# Altium footprint library Passive Components.PcbLib: 12 footprints
Each footprint in its own frame and in the unit in brackets; x right, y up, seen from the top. Pads: shape width x height; smd on the part's side, far side on the other; paste and mask are expansions set on the pad; w line width, h text height; cw(c..) or ccw(c..) is an arc to the next point about the centre after c.
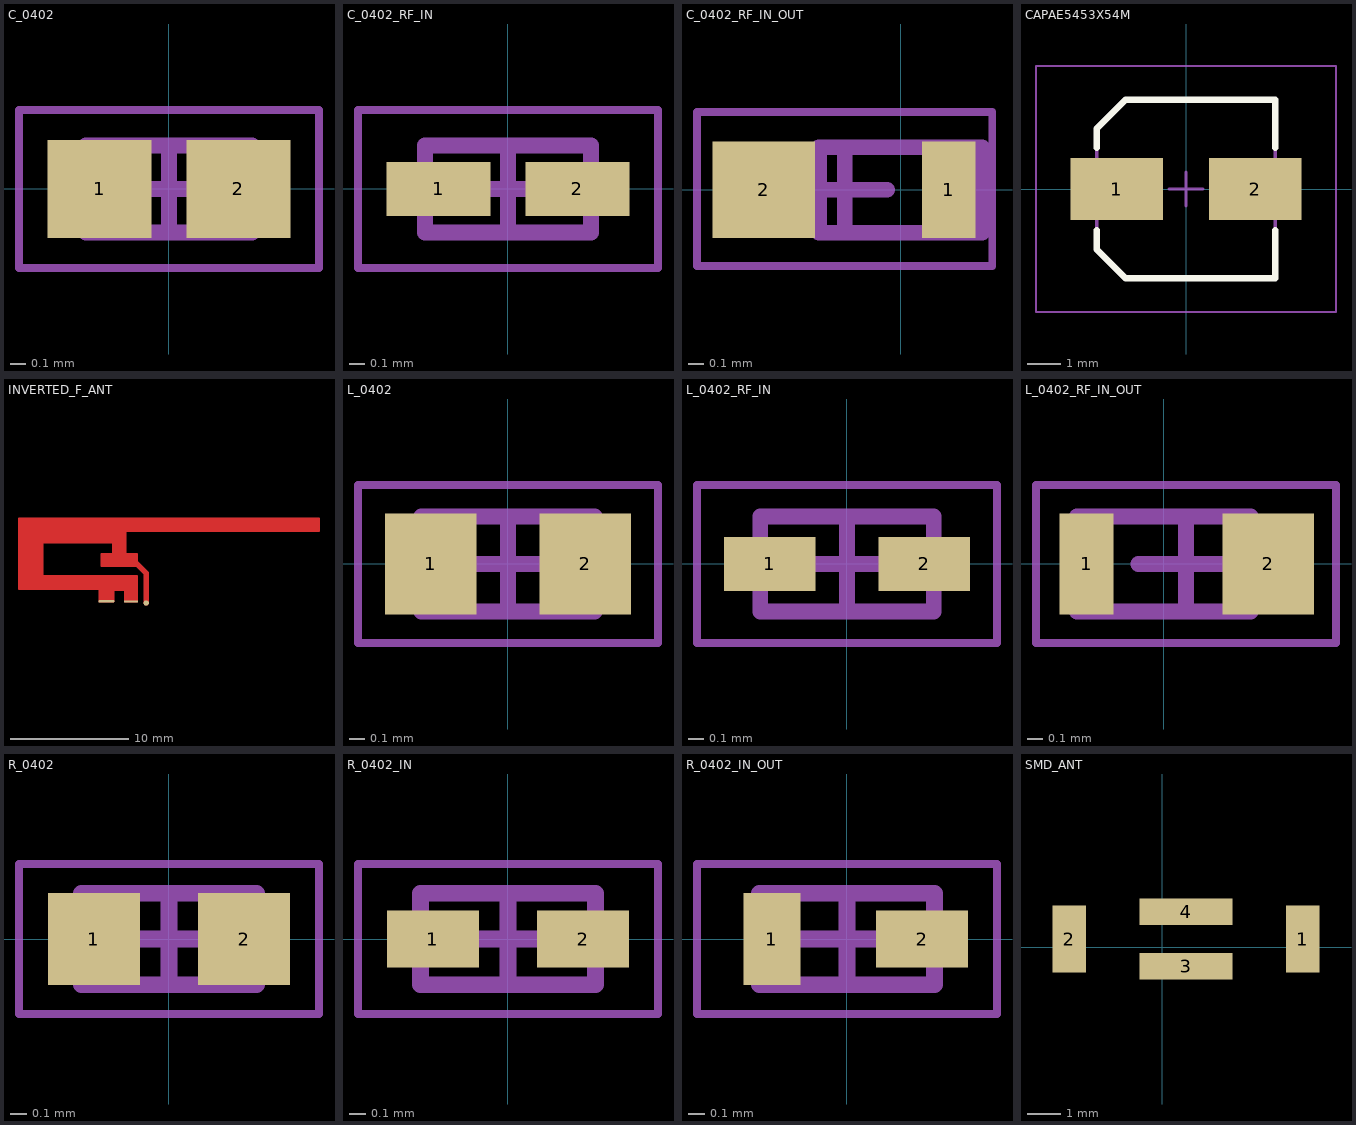
[diagram p0: the footprints below, top view; thin cyan lines are the x and y axes]

## C_0402 [mm] "Chip Capacitor, 2-Leads, Body 1,00x0,50mm, IPC Medium Density"
height 0.55
pads (2):
  rect 0.66x0.62 smd: 1(-0.44,0) 2(0.44,0)
Mechanical 13:
  lines w0.1: -0.525,-0.275 -0.525,0.275 0.525,0.275 0.525,-0.275 -0.525,-0.275
Mechanical 15:
  lines w0.05: -0.95,-0.5 -0.95,0.5 0.95,0.5 0.95,-0.5 -0.95,-0.5
  lines w0.1: -0.275,0 0.275,0 ; 0,-0.275 0,0.275
3D body "CAPC1005X06N.step": height 0.55, standoff 0, extent -0.525,-0.275 0.525,0.275

## C_0402_RF_IN [mm] "Chip Capacitor, 2-Leads, Body 1,00x0,50mm, IPC Medium Density"
height 0.55
pads (2):
  rect 0.66x0.343 smd mask+0.202: 1(-0.44,0) 2(0.44,0)
Mechanical 13:
  lines w0.1: -0.525,-0.275 -0.525,0.275 0.525,0.275 0.525,-0.275 -0.525,-0.275
Mechanical 15:
  lines w0.05: -0.95,-0.5 -0.95,0.5 0.95,0.5 0.95,-0.5 -0.95,-0.5
  lines w0.1: -0.275,0 0.275,0 ; 0,-0.275 0,0.275
3D body "CAPC1005X06N.step": height 0.55, standoff 0, extent -0.525,-0.275 0.525,0.275

## C_0402_RF_IN_OUT [mm] "Chip Capacitor, 2-Leads, Body 1,00x0,50mm, IPC Medium Density"
height 0.55
pads (2):
  rect 0.343x0.62 smd: 1(0.31,0)
  rect 0.66x0.62 smd: 2(-0.88,0)
Mechanical 13:
  lines w0.1: -0.525,-0.275 0.525,-0.275 0.525,0.275 -0.525,0.275 -0.525,-0.275
Mechanical 15:
  lines w0.05: -1.31,-0.49 0.59,-0.49 0.59,0.5 -1.31,0.5 -1.31,-0.49
  lines w0.1: -0.635,0 -0.085,0 ; -0.36,-0.275 -0.36,0.275
3D body "CAPC1005X06N.step": height 0.55, standoff 0, extent -0.765,-0.275 0.285,0.275

## CAPAE5453X54M [mm] "Aluminum Electrolytic Capacitor, Body 5,30x5,30x5,40mm, IPC Low Density"
height 5.4
pads (2):
  rect 2.75x1.85 smd: 1(-2.05,0) 2(2.05,0)
Top Overlay:
  lines w0.2: -2.65,-1.225 -2.65,-1.787 -1.788,-2.65 2.65,-2.65 2.65,-1.225 ; -2.65,1.225 -2.65,1.787 -1.788,2.65 2.65,2.65 2.65,1.225
Mechanical 13:
  lines w0.1: -2.65,-1.787 -1.788,-2.65 2.65,-2.65 2.65,2.65 -1.788,2.65 -2.65,1.787 -2.65,-1.787
Mechanical 15:
  lines w0.05: -4.45,-3.65 -4.45,3.65 4.45,3.65 4.45,-3.65 -4.45,-3.65
  lines w0.1: -0.5,0 0.5,0 ; 0,-0.5 0,0.5
3D body "CAPAE5453X54M.step": height 5.4, standoff 0, extent -2.675,-2.65 2.675,2.65

## INVERTED_F_ANT [mil] "2.4 GHz inverted F antenna"
pads (7):
  round 1 smd mask+4: 1(-47569.61,-42812.13) 1(-47536,-42945) 1(-47536,-42845.74) 1(-47536,-42845.74)
  round 17.99 smd mask+4: ANT(-47536,-42945)
  rrect90% 53.15x7.87 smd: GND(-47668.5,-42939.76)
  rrect90% 47.24x7.87 smd: GND(-47586.61,-42940.16)
Top Layer:
  lines w8: -47960,-42896 -47567,-42896 ; -47960,-42888 -47567,-42888 ; -47960,-42880 -47567,-42880 ; -47960,-42872 -47567,-42872 ; -47960,-42864 -47567,-42864 ; -47960,-42856 -47567,-42856 ; -47960,-42848 -47881.96,-42848 ; -47960,-42840 -47881.96,-42840 ; -47960,-42832 -47881.96,-42832 ; -47960,-42824 -47881.96,-42824 ; -47960,-42816 -47881.96,-42816 ; -47960,-42808 -47881.96,-42808 ; -47960,-42800 -47881.96,-42800 ; -47960,-42792 -47881.96,-42792 ; -47960,-42784 -47881.96,-42784 ; -47960,-42776 -47881.96,-42776 ; -47960,-42768 -47881.96,-42768 ; -47960,-42760 -47881.96,-42760 ; -47960,-42752 -47881.96,-42752 ; -47960,-42744 -47881.96,-42744 ; -47960,-42736 -47606.37,-42736 ; -47960,-42728 -47606.37,-42728 ; -47960,-42720 -47606.37,-42720 ; -47960,-42712 -47606.37,-42712 ; -47960,-42704 -47606.37,-42704 ; -47960,-42696 -46960,-42696 ; -47960,-42688 -46960,-42688 ; -47960,-42680 -46960,-42680 ; -47960,-42672 -46960,-42672 ; -47691,-42936 -47645.74,-42936 ; -47691,-42928 -47645.74,-42928 ; -47691,-42920 -47645.74,-42920 ; -47691,-42912 -47645.74,-42912 ; -47691,-42904 -47645.74,-42904 ; -47685.11,-42816 -47567,-42816 ; -47685.11,-42808 -47567,-42808 ; -47685.11,-42800 -47567,-42800 ; -47685.11,-42792 -47567,-42792 ; -47685.11,-42784 -47567,-42784 ; -47645.74,-42776 -47606.37,-42776 ; -47645.74,-42768 -47606.37,-42768 ; -47645.74,-42760 -47606.37,-42760 ; -47645.74,-42752 -47606.37,-42752 ; -47645.74,-42744 -47606.37,-42744 ; -47606.37,-42936 -47567,-42936 ; -47606.37,-42928 -47567,-42928 ; -47606.37,-42920 -47567,-42920 ; -47606.37,-42912 -47567,-42912 ; -47606.37,-42904 -47567,-42904 ; -47567,-42856 -47567,-42940 -47606.37,-42940 -47606.37,-42900.63 -47645.74,-42900.63 -47645.74,-42940 -47691,-42940 -47691,-42899 -47939,-42898 -47960,-42898 -47960,-42664 -46960,-42664 -46960,-42703.78 -47606.37,-42703.78 -47606.37,-42782.52 -47567,-42782.52 -47567,-42821.89 -47685.11,-42821.89 -47685.11,-42782.52 -47645.74,-42782.52 -47645.74,-42743.15 -47881.96,-42743.15 -47881.96,-42856 -47567,-42856
  lines w18: -47569.61,-42812.13 -47536,-42845.74 -47536,-42945

## L_0402 [mm] "Inductor 0402"
height 0.6
pads (2):
  rect 0.58x0.64 smd: 1(-0.49,0) 2(0.49,0)
Mechanical 13:
  lines w0.1: -0.55,-0.3 -0.55,0.3 0.55,0.3 0.55,-0.3 -0.55,-0.3
Mechanical 15:
  lines w0.05: -0.95,-0.5 -0.95,0.5 0.95,0.5 0.95,-0.5 -0.95,-0.5
  lines w0.1: -0.3,0 0.3,0 ; 0,-0.3 0,0.3
3D body "INDC1005X06N.step": height 0.6, standoff 0, extent -0.55,-0.3 0.55,0.3

## L_0402_RF_IN [mm] "Inductor 0402"
height 0.6
pads (2):
  rect 0.58x0.343 smd mask+0.202: 1(-0.49,0) 2(0.49,0)
Mechanical 13:
  lines w0.1: -0.55,-0.3 -0.55,0.3 0.55,0.3 0.55,-0.3 -0.55,-0.3
Mechanical 15:
  lines w0.05: -0.95,-0.5 -0.95,0.5 0.95,0.5 0.95,-0.5 -0.95,-0.5
  lines w0.1: -0.3,0 0.3,0 ; 0,-0.3 0,0.3
3D body "INDC1005X06N.step": height 0.6, standoff 0, extent -0.55,-0.3 0.55,0.3

## L_0402_RF_IN_OUT [mm] "Inductor 0402"
height 0.6
pads (2):
  rect 0.343x0.64 smd: 1(-0.49,0)
  rect 0.58x0.64 smd: 2(0.66,0)
Mechanical 13:
  lines w0.1: -0.55,-0.3 0.55,-0.3 0.55,0.3 -0.55,0.3 -0.55,-0.3
Mechanical 15:
  lines w0.05: -0.81,-0.5 1.09,-0.5 1.09,0.5 -0.81,0.5 -0.81,-0.5
  lines w0.1: -0.16,0 0.44,0 ; 0.14,-0.3 0.14,0.3
3D body "INDC1005X06N.step": height 0.6, standoff 0, extent -0.44,-0.3 0.66,0.3

## R_0402 [mm] "Chip Resistor, 2-Leads, Body 1,00x0,50mm, IPC Medium Density"
height 0.4
pads (2):
  rect 0.55x0.55 smd: 1(-0.45,0) 2(0.45,0)
Mechanical 13:
  lines w0.1: -0.525,-0.275 0.525,-0.275 0.525,0.275 -0.525,0.275 -0.525,-0.275
Mechanical 15:
  lines w0.05: -0.9,-0.45 0.9,-0.45 0.9,0.45 -0.9,0.45 -0.9,-0.45
  lines w0.1: -0.275,0 0.275,0 ; 0,-0.275 0,0.275
3D body "RESC1005X04N.step": height 0.4, standoff 0, extent -0.525,-0.275 0.525,0.275

## R_0402_IN [mm] "Chip Resistor, 2-Leads, Body 1,00x0,50mm, IPC Medium Density"
height 0.4
pads (2):
  rect 0.55x0.343 smd mask+0.202: 1(-0.45,0) 2(0.45,0)
Mechanical 13:
  lines w0.1: -0.525,-0.275 -0.525,0.275 0.525,0.275 0.525,-0.275 -0.525,-0.275
Mechanical 15:
  lines w0.05: -0.9,-0.45 -0.9,0.45 0.9,0.45 0.9,-0.45 -0.9,-0.45
  lines w0.1: -0.275,0 0.275,0 ; 0,-0.275 0,0.275
3D body "RESC1005X04N.step": height 0.4, standoff 0, extent -0.525,-0.275 0.525,0.275

## R_0402_IN_OUT [mm] "Chip Resistor, 2-Leads, Body 1,00x0,50mm, IPC Medium Density"
height 0.4
pads (2):
  rect 0.343x0.55 smd: 1(-0.45,0)
  rect 0.55x0.343 smd: 2(0.45,0)
Mechanical 13:
  lines w0.1: -0.525,-0.275 0.525,-0.275 0.525,0.275 -0.525,0.275 -0.525,-0.275
Mechanical 15:
  lines w0.05: -0.9,-0.45 0.9,-0.45 0.9,0.45 -0.9,0.45 -0.9,-0.45
  lines w0.1: -0.275,0 0.275,0 ; 0,-0.275 0,0.275
3D body "RESC1005X04N.step": height 0.4, standoff 0, extent -0.525,-0.275 0.525,0.275

## SMD_ANT [mm]
pads (4):
  rect 1x2 smd: 1(4.206,0.254) 2(-2.794,0.254)
  rect 2.8x0.8 smd: 3(0.707,-0.561) 4(0.707,1.069)
3D body: height 2, standoff 0, extent -2.852,-0.754 4.332,1.256